# Altium schematic symbol library Resistors 0402.SchLib: 4 symbols
Pins are listed as number, name and electrical type; pins without a type are passive.

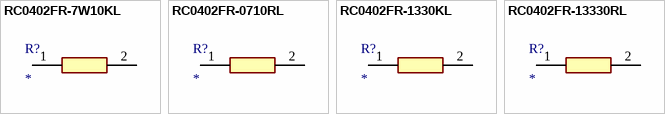
[diagram p0: symbols RC0402FR-7W10KL to RC0402FR-13330RL]

## RC0402FR-7W10KL
designator R?
Resistor; Manufacturer_Name: KEMET; Manufacturer_Part_Number: RC0402FR-7W10KL; Description: Thick Film Resistors - SMD 10K ohm 1% 50V General Purpose; Datasheet Link: http://www.yageo.com/documents/recent/PYu-RC0402_51_RoHS_L_6_r.pdf; Height: 0.4mm; Mouser Part Number: 603-RC0402FR-7W10KL; Mouser Price/Stock: https://www.mouser.co.uk/ProductDetail/Yageo/RC0402FR-7W10KL?qs=AQlKX63v8RuJPYBLNB4eQg%3D%3D
footprint RESC1005X40N
pins: 1, 2

## RC0402FR-0710RL
designator R?
Resistor; Manufacturer_Name: TDK; Manufacturer_Part_Number: RC0402FR-0710RL; Description: Thick Film Resistors - SMD 10 Ohms 62.5mW 0402 1%; Datasheet Link: https://www.yageo.com/upload/media/product/productsearch/datasheet/rchip/PYu-RC_Group_51_RoHS_L_11.pdf; Height: 0.4mm
footprint RESC1005X40N
pins: 1, 2

## RC0402FR-1330KL
designator R?
Resistor; Manufacturer_Name: KEMET; Manufacturer_Part_Number: RC0402FR-1330KL; Description: Thick Film Resistors - SMD 30 kOhms 62.5mW 0402 1%; Datasheet Link: http://www.yageo.com/documents/recent/PYu-RC0402_51_RoHS_L_6_r.pdf; Height: 0.4mm; Mouser Part Number: 603-RC0402FR-1330KL; Mouser Price/Stock: https://www.mouser.co.uk/ProductDetail/YAGEO/RC0402FR-1330KL?qs=NgbZBzc1CyHK62Sk3zCcFg%3D%3D
footprint RESC1005X40N
pins: 1, 2

## RC0402FR-13330RL
designator R?
Resistor; Manufacturer_Name: KEMET; Manufacturer_Part_Number: RC0402FR-13330RL; Description: Thick Film Resistors - SMD 330 OHM 1%; Datasheet Link: http://www.yageo.com/documents/recent/PYu-RC0402_51_RoHS_L_6_r.pdf; Height: 0.4mm; Mouser Part Number: 603-RC0402FR-13330RL; Mouser Price/Stock: https://www.mouser.co.uk/ProductDetail/Yageo/RC0402FR-13330RL?qs=Is6ZsIPfHkbX5M%252BgK0riFg%3D%3D
footprint RESC1005X40N
pins: 1, 2